# Altium footprint library First.PcbLib: 2 footprints
Each footprint in its own frame and in the unit in brackets; x right, y up, seen from the top. Pads: shape width x height; smd on the part's side, far side on the other; paste and mask are expansions set on the pad; w line width, h text height; cw(c..) or ccw(c..) is an arc to the next point about the centre after c.
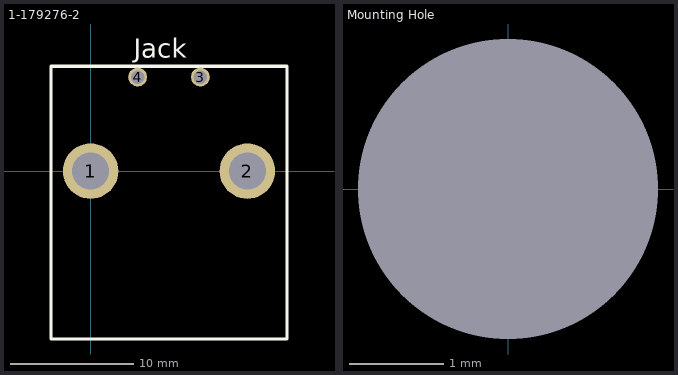
[diagram p0: the footprints below, top view; thin cyan lines are the x and y axes]

## 1-179276-2 [mm] "2_POS_HDR"
height 9.3
pads (4):
  round 4.5 hole 3: 1(0,0) 2(12.7,0)
  round 1.524 hole 1.1: 3(8.89,7.62) 4(3.81,7.62)
Top Overlay:
  lines w0.254: -3.2,-13.6 -3.2,8.5 0,8.5 15.9,8.5 15.9,-13.6 -3.2,-13.6
  text "Jack" at 3.479,9.179 h1.52
3D body "c-0179276-12-b-3d.stp": height 11.85, standoff -2.8, extent -3.14,-13.7 15.94,8.4

## Mounting Hole [mm] "Mounting Hole 3.2mm"
pads (1):
  round 1 hole 3.2 unplated: ""(0,0)